# Altium schematic symbol library USB-A 2ch.Schlib: 1 symbol
Pins are listed as number, name and electrical type; pins without a type are passive.

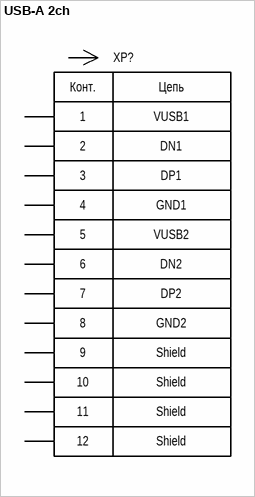
[diagram p0: symbol USB-A 2ch]

## USB-A 2ch
designator XP?
pins: 1, 2, 3, 4, 5, 6, 7, 8, 9, 10, 11, 12
text: Конт.; Цепь; VUSB1; DN1; DP1; GND1; VUSB2; DN2; DP2; GND2; Shield